# EAGLE library part ERF8-011-XX.X-X-DV (library con-samtec-er8)
ERF8 Series - Female
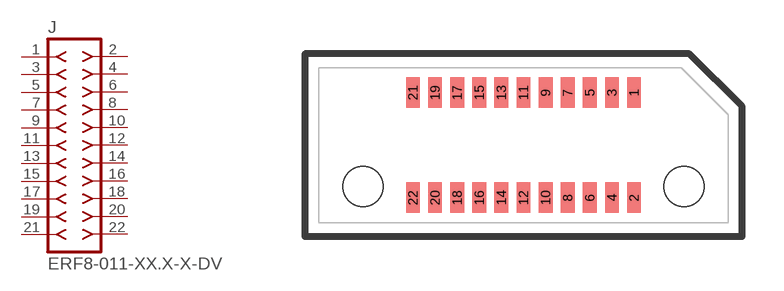
[diagram p19: symbol with the pads of ERF8-011-XX.X-X-DV; footprint ERF8-011-XX.X-X-DV]

Designator prefix J

## ERF8-011-XX.X-X-DV  [ERF8-011-XX.X-X-DV]
1  1  pas
2  2  pas
3  3  pas
4  4  pas
5  5  pas
6  6  pas
7  7  pas
8  8  pas
9  9  pas
10  10  pas
11  11  pas
12  12  pas
13  13  pas
14  14  pas
15  15  pas
16  16  pas
17  17  pas
18  18  pas
19  19  pas
20  20  pas
21  21  pas
22  22  pas

## Footprint ERF8-011-XX.X-X-DV (pad centres in mm)
0.8mm Edge Rate Terminal Assembly FEMALE, Double Vertical Row, 11 Position
smd 0.5 x 1.1: 1 4,1.9; 2 4,-1.9; 3 3.2,1.9; 4 3.2,-1.9; 5 2.4,1.9; 6 2.4,-1.9; 7 1.6,1.9; 8 1.6,-1.9; 9 0.8,1.9; 10 0.8,-1.9; 11 0,1.9; 12 0,-1.9; 13 -0.8,1.9; 14 -0.8,-1.9; 15 -1.6,1.9; 16 -1.6,-1.9; 17 -2.4,1.9; 18 -2.4,-1.9; 19 -3.2,1.9; 20 -3.2,-1.9; 21 -4,1.9; 22 -4,-1.9
hole 1.45 at 5.8,-1.5
hole 1.45 at -5.8,-1.5